# EAGLE library part LTC1992 (library AMH)
Differential amplifier
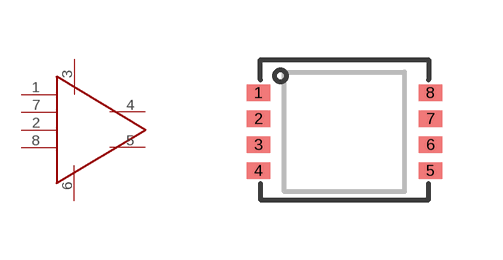
[diagram p5: symbol with the pads of 8-PIN_MSOP; footprint 8-PIN_MSOP]

Designator prefix -

## LTC1992  [8-PIN_MSOP]
1  -
2  V_OCM
3  VDD
4  OUT+
5  OUT-
6  GND
7  V_MID
8  +

## Footprint 8-PIN_MSOP (pad centres in mm)
smd 0.6 x 0.41: 1 -2.15,0.975; 2 -2.15,0.325; 3 -2.15,-0.325; 4 -2.15,-0.975; 5 2.15,-0.975; 6 2.15,-0.325; 7 2.15,0.325; 8 2.15,0.975